# Altium schematic symbol library TI_National_Semiconductor_LM2735YQMF_NOPB.SchLib: 1 symbol
Pins are listed as number, name and electrical type; pins without a type are passive.

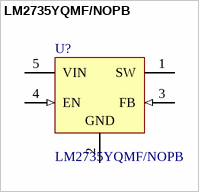
[diagram p0: symbol LM2735YQMF/NOPB]

## LM2735YQMF/NOPB
designator U?
520kHz/1.6MHz - Space-Efficient Boost and SEPIC DC-DC Regulator, 5-pin SOT-23, Pb-Free; Manufacturer: Texas Instruments; PackageTopMarking: SXUB*XTT; PowerWise: N; CompType: MiscPower; ComponentLink1Description: Datasheet URL; PinCount: 5; ComponentLink1URL: http://www.ti.com/general/docs/lit/getliterature.tsp?genericPartNumber=LM2735-Q1&fileType=pdf; PackageDescription: Molded SOT-23, .115 x .063 x .040 in Body, 5 Lead, .0375 in Pitch; RoHS: Y; PackageReference: DBV0005A
footprint DBV0005A_L
footprint DBV0005A_M
footprint DBV0005A_N
pins: 1 SW (power), 2 GND (power), 3 FB (in), 4 EN (in), 5 VIN (power)